# Altium footprint library 6.8uh.PcbLib: 1 footprints
Each footprint in its own frame and in the unit in brackets; x right, y up, seen from the top. Pads: shape width x height; smd on the part's side, far side on the other; paste and mask are expansions set on the pad; w line width, h text height; cw(c..) or ccw(c..) is an arc to the next point about the centre after c.
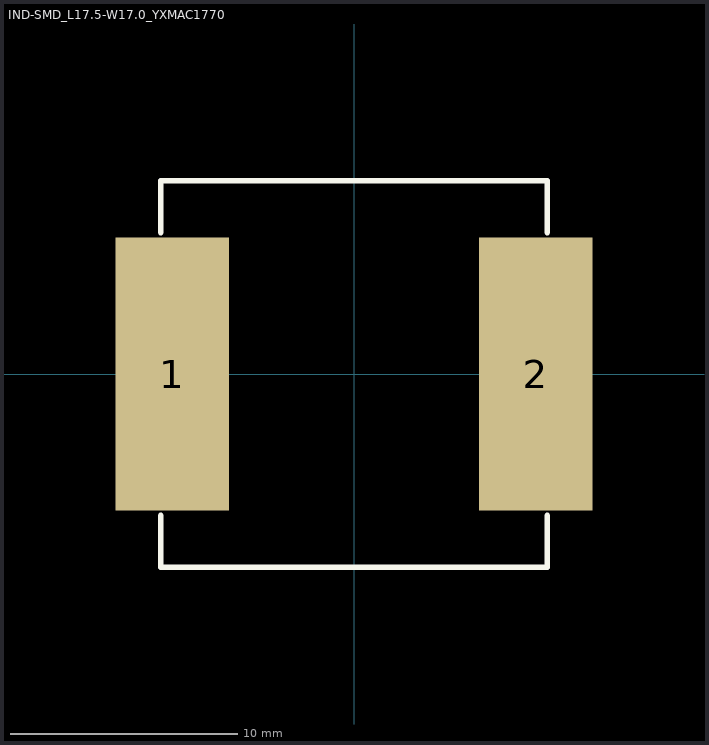
[diagram p0: the footprint, top view; thin cyan lines are the x and y axes]

## IND-SMD_L17.5-W17.0_YXMAC1770 [mm]
pads (2):
  rect 5x12 smd: 1(-8,0) 2(8,0)
Top Overlay:
  lines w0.254: -8.5,-6.231 -8.5,-8.5 8.5,-8.5 8.5,-6.231 ; -8.5,6.231 -8.5,8.5 8.5,8.5 8.5,6.231